# EAGLE library part TLP281-4 (library optocoupler)
TOSHIBA PHOTOCOUPLER GaAs IRED & PHOTO-TRANSISTOR Source: http://www.alldatasheet.com/datasheet-pdf/pdf/32424/TOSHIBA/TLP281.html214960/TOSHIBA/TLP281-4.html
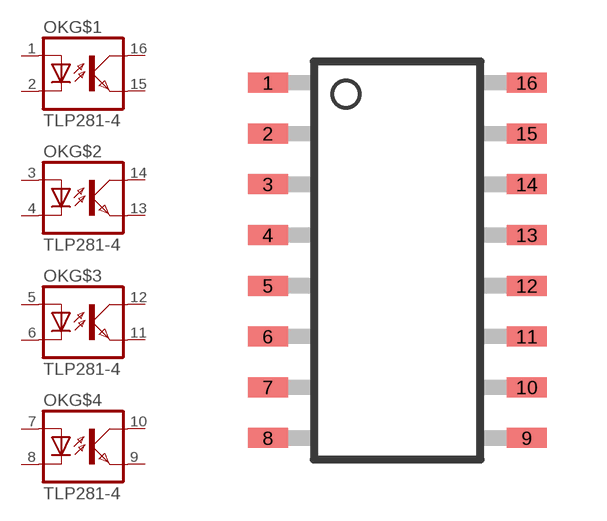
[diagram p4: symbol with the pads of MINI-FLAT-16; footprint MINI-FLAT-16]

Designator prefix OK; gates G$1=OK G$2=OK G$3=OK G$4=OK

## TLP281-4  [MINI-FLAT-16]
1  G$1:A  pas
2  G$1:C  pas
3  G$2:A  pas
4  G$2:C  pas
5  G$3:A  pas
6  G$3:C  pas
7  G$4:A  pas
8  G$4:C  pas
9  G$4:EMIT  pas
10  G$4:COL  pas
11  G$3:EMIT  pas
12  G$3:COL  pas
13  G$2:EMIT  pas
14  G$2:COL  pas
15  G$1:EMIT  pas
16  G$1:COL  pas

## Footprint MINI-FLAT-16 (pad centres in mm)
TOSHIBA PHOTOCOUPLER GaAs IRED & PHOTO-TRANSISTOR 11-10F1 Source: http://www.semicon.toshiba.co.jp/td/en/Opto/Photocoupler/en_20050928_TLP283_datasheet.pdf
smd 1 x 0.5: 1 -3.24,4.445; 2 -3.24,3.175; 3 -3.24,1.905; 4 -3.24,0.635; 5 -3.24,-0.635; 6 -3.24,-1.905; 7 -3.24,-3.175; 8 -3.24,-4.445; 9 3.24,-4.445; 10 3.24,-3.175; 11 3.24,-1.905; 12 3.24,-0.635; 13 3.24,0.635; 14 3.24,1.905; 15 3.24,3.175; 16 3.24,4.445